# EAGLE library part TTGO_ESP32_EPAPER (library HikeBuddy)
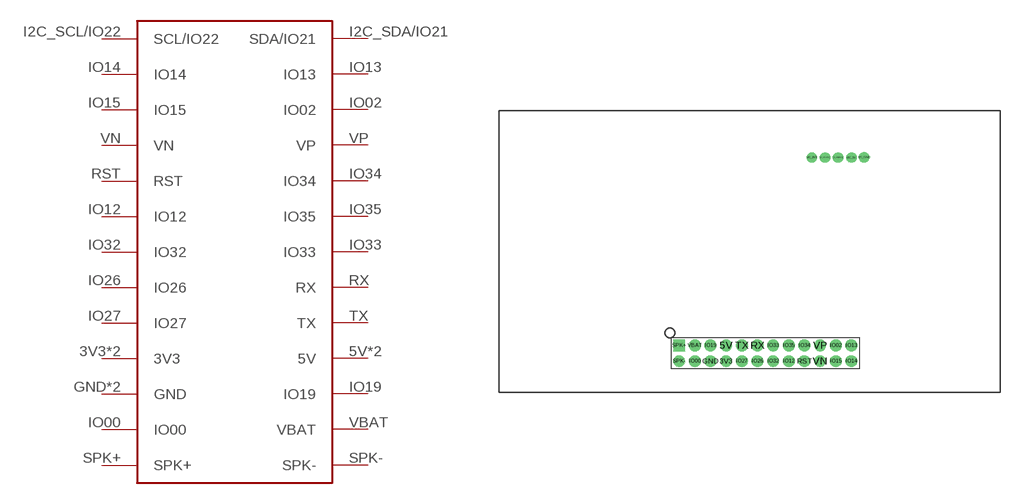
[diagram p0: symbol with the pads of TTGO_ESP32_EPAPER; footprint TTGO_ESP32_EPAPER]

Designator prefix -

## TTGO_ESP32_EPAPER  [TTGO_ESP32_EPAPER]
3V3  3V3
5V  5V
GND  GND
I2C_3V3  3V3
I2C_5V  5V
I2C_GND  GND
I2C_SCL/IO22  SCL/IO22
I2C_SDA/IO21  SDA/IO21
IO00  IO00
IO02  IO02
IO12  IO12
IO13  IO13
IO14  IO14
IO15  IO15
IO19  IO19
IO26  IO26
IO27  IO27
IO32  IO32
IO33  IO33
IO34  IO34
IO35  IO35
RST  RST
RX  RX
SPK+  SPK+
SPK-  SPK-
TX  TX
VBAT  VBAT
VN  VN
VP  VP

## Footprint TTGO_ESP32_EPAPER (pad centres in mm)
drill 1 pad 1.93: 3V3 7.62,-2.54; 5V 7.62,0; GND 5.08,-2.54; IO00 2.54,-2.54; IO02 25.4,0; IO12 17.78,-2.54; IO13 27.94,0; IO14 27.94,-2.54; IO15 25.4,-2.54; IO19 5.08,0; IO26 12.7,-2.54; IO27 10.16,-2.54; IO32 15.24,-2.54; IO33 15.24,0; IO34 20.32,0; IO35 17.78,0; RST 20.32,-2.54; RX 12.7,0; SPK- 0,-2.54; TX 10.16,0; VBAT 2.54,0; VN 22.86,-2.54; VP 22.86,0
drill 0.8 pad 1.676: I2C_3V3 21.52,30.48; I2C_5V 27.94,30.48; I2C_GND 30,30.5; I2C_SCL/IO22 23.66,30.48; I2C_SDA/IO21 25.8,30.48
drill 1 pad 1.93 square: SPK+ 0,0